# EAGLE library part 2128 (library pololu)
Stepper driver with A4988
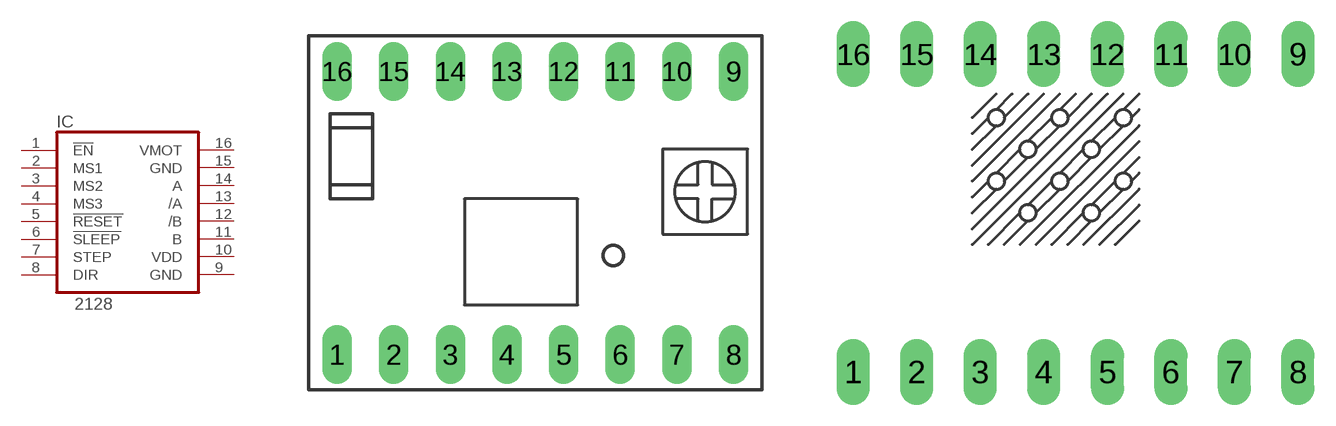
[diagram p0: symbol with the pads of DIL16W-TOP; footprints DIL16W-TOP, DIL16W-BOT]

Designator prefix IC

## 2128  [DIL16W-TOP]
1  EN  in
2  MS1  in
3  MS2  in
4  MS3  in
5  RESET  in
6  SLEEP  in
7  STEP  in
8  DIR  in
9  GND  pwr
10  VDD  pwr
11  B  out
12  /B  out
13  /A  out
14  A  out
15  GND  pwr
16  VMOT  pwr

## 2128-INV  [DIL16W-BOT]
1  VMOT  pwr
2  GND  pwr
3  A  out
4  /A  out
5  /B  out
6  B  out
7  VDD  pwr
8  GND  pwr
9  DIR  in
10  STEP  in
11  SLEEP  in
12  RESET  in
13  MS3  in
14  MS2  in
15  MS1  in
16  EN  in

## Footprint DIL16W-TOP (pad centres in mm)
drill 0.813 long: 1 -8.89,-6.35; 2 -6.35,-6.35; 3 -3.81,-6.35; 4 -1.27,-6.35; 5 1.27,-6.35; 6 3.81,-6.35; 7 6.35,-6.35; 8 8.89,-6.35; 9 8.89,6.35; 10 6.35,6.35; 11 3.81,6.35; 12 1.27,6.35; 13 -1.27,6.35; 14 -3.81,6.35; 15 -6.35,6.35; 16 -8.89,6.35

## Footprint DIL16W-BOT (pad centres in mm)
drill 0.813 long: 1 -8.89,-6.35; 2 -6.35,-6.35; 3 -3.81,-6.35; 4 -1.27,-6.35; 5 1.27,-6.35; 6 3.81,-6.35; 7 6.35,-6.35; 8 8.89,-6.35; 9 8.89,6.35; 10 6.35,6.35; 11 3.81,6.35; 12 1.27,6.35; 13 -1.27,6.35; 14 -3.81,6.35; 15 -6.35,6.35; 16 -8.89,6.35